# EAGLE library part RT5350 (library RT5350F_OLinuXino_Rev_B)
RT5350 SoC - combined Ralink's 802.11n compliant 1T1R MAC/BBP/RF, a high performance 360 MHz MIPS24KEc CPU core and USB controller/PHY
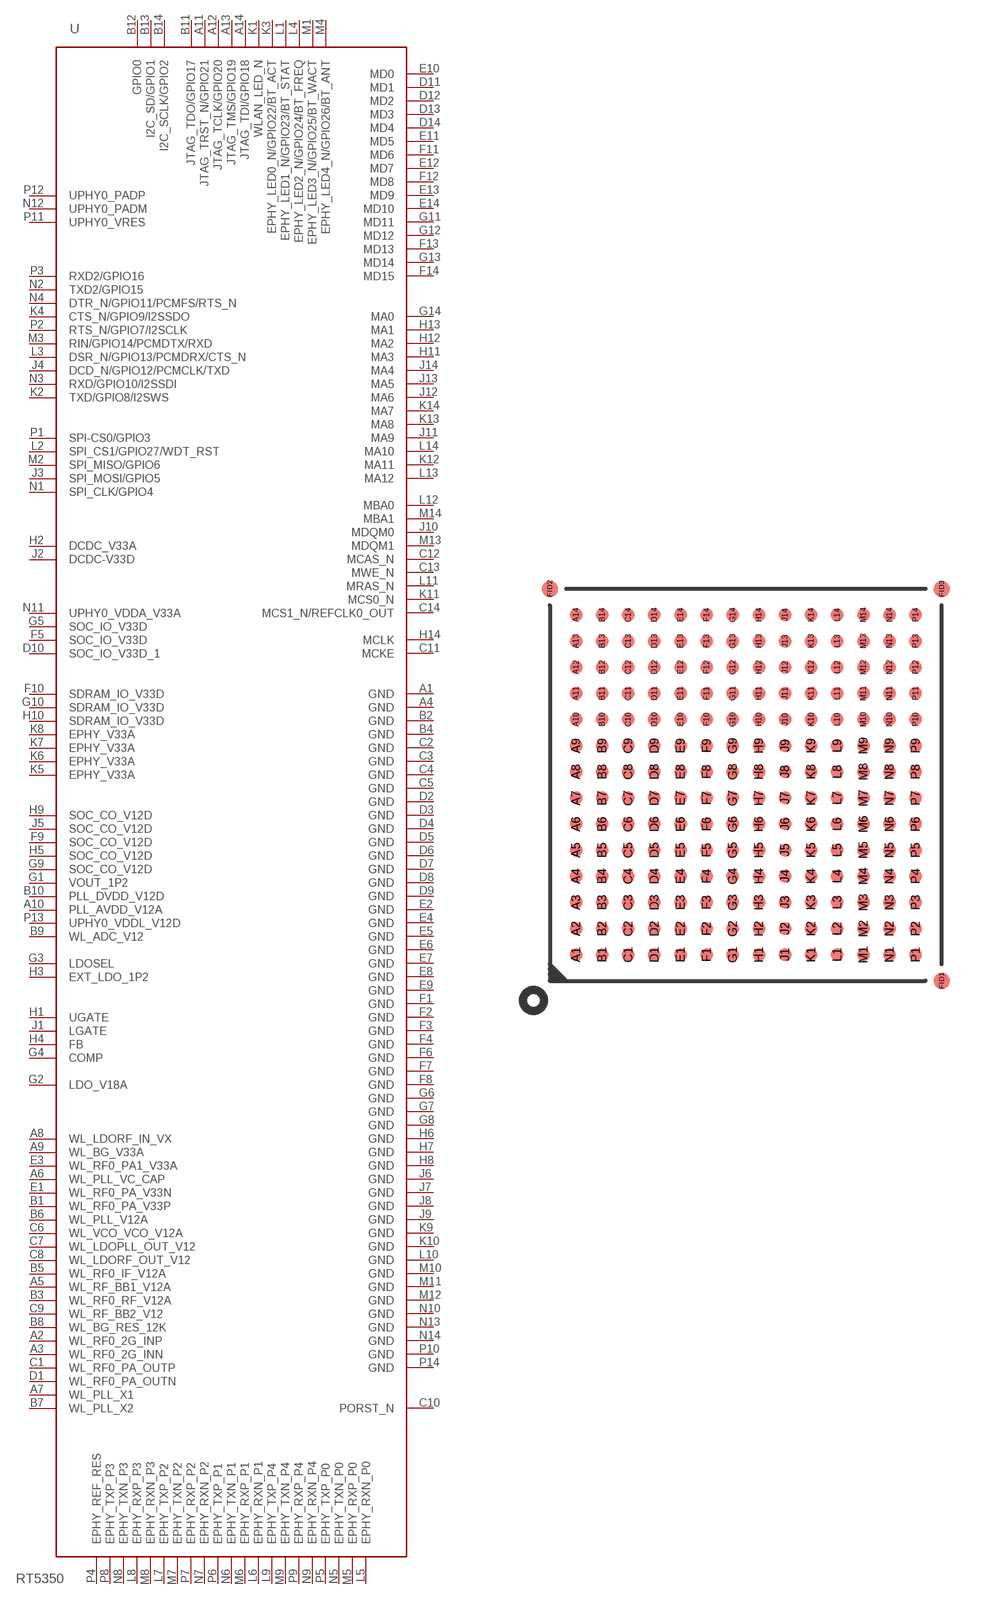
[diagram p0: symbol with the pads of TFBGA196B; footprint TFBGA196B]

Designator prefix U

## RT5350  [TFBGA196B]
A1  GND  pwr
A2  WL_RF0_2G_INP  in
A3  WL_RF0_2G_INN  in
A4  GND  pwr
A5  WL_RF_BB1_V12A  pwr
A6  WL_PLL_VC_CAP
A7  WL_PLL_X1  in
A8  WL_LDORF_IN_VX  in
A9  WL_BG_V33A  pwr
A10  PLL_AVDD_V12A  pwr
A11  JTAG_TRST_N/GPIO21  in
A12  JTAG_TCLK/GPIO20  in
A13  JTAG_TMS/GPIO19  in
A14  JTAG_TDI/GPIO18  in
B1  WL_RF0_PA_V33P  pwr
B2  GND  pwr
B3  WL_RF0_RF_V12A  pwr
B4  GND  pwr
B5  WL_RF0_IF_V12A  pwr
B6  WL_PLL_V12A  pwr
B7  WL_PLL_X2  out
B8  WL_BG_RES_12K
B9  WL_ADC_V12  pwr
B10  PLL_DVDD_V12D  pwr
B11  JTAG_TDO/GPIO17  out
B12  GPIO0
B13  I2C_SD/GPIO1  out
B14  I2C_SCLK/GPIO2
C1  WL_RF0_PA_OUTP  out
C2  GND  pwr
C3  GND  pwr
C4  GND  pwr
C5  GND  pwr
C6  WL_VCO_VCO_V12A  pwr
C7  WL_LDOPLL_OUT_V12  out
C8  WL_LDORF_OUT_V12  out
C9  WL_RF_BB2_V12  pwr
C10  PORST_N  in
C11  MCKE
C12  MCAS_N
C13  MWE_N
C14  MCS1_N/REFCLK0_OUT
D1  WL_RF0_PA_OUTN  out
D2  GND  pwr
D3  GND  pwr
D4  GND  pwr
D5  GND  pwr
D6  GND  pwr
D7  GND  pwr
D8  GND  pwr
D9  GND  pwr
D10  SOC_IO_V33D_1  pwr
D11  MD1
D12  MD2
D13  MD3
D14  MD4
E1  WL_RF0_PA_V33N  pwr
E2  GND  pwr
E3  WL_RF0_PA1_V33A  pwr
E4  GND  pwr
E5  GND  pwr
E6  GND  pwr
E7  GND  pwr
E8  GND  pwr
E9  GND  pwr
E10  MD0
E11  MD5
E12  MD7
E13  MD9
E14  MD10
F1  GND  pwr
F2  GND  pwr
F3  GND  pwr
F4  GND  pwr
F5  SOC_IO_V33D  pwr
F6  GND  pwr
F7  GND  pwr
F8  GND  pwr
F9  SOC_CO_V12D  pwr
F10  SDRAM_IO_V33D  pwr
F11  MD6
F12  MD8
F13  MD13
F14  MD15
G1  VOUT_1P2  pwr
G2  LDO_V18A  pwr
G3  LDOSEL  in
G4  COMP  out
G5  SOC_IO_V33D  pwr
G6  GND  pwr
G7  GND  pwr
G8  GND  pwr
G9  SOC_CO_V12D  pwr
G10  SDRAM_IO_V33D  pwr
G11  MD11
G12  MD12
G13  MD14
G14  MA0
H1  UGATE
H2  DCDC_V33A  pwr
H3  EXT_LDO_1P2  pwr
H4  FB
H5  SOC_CO_V12D  pwr
H6  GND  pwr
H7  GND  pwr
H8  GND  pwr
H9  SOC_CO_V12D  pwr
H10  SDRAM_IO_V33D  pwr
H11  MA3
H12  MA2
H13  MA1
H14  MCLK
J1  LGATE
J2  DCDC-V33D
J3  SPI_MOSI/GPIO5  out
J4  DCD_N/GPIO12/PCMCLK/TXD  in
J5  SOC_CO_V12D  pwr
J6  GND  pwr
J7  GND  pwr
J8  GND  pwr
J9  GND  pwr
J10  MDQM0
J11  MA9
J12  MA6
J13  MA5
J14  MA4
K1  WLAN_LED_N  out
K2  TXD/GPIO8/I2SWS  out
K3  EPHY_LED0_N/GPIO22/BT_ACT  out
K4  CTS_N/GPIO9/I2SSDO  in
K5  EPHY_V33A  pwr
K6  EPHY_V33A  pwr
K7  EPHY_V33A  pwr
K8  EPHY_V33A
K9  GND  pwr
K10  GND  pwr
K11  MCS0_N
K12  MA11
K13  MA8
K14  MA7
L1  EPHY_LED1_N/GPIO23/BT_STAT  out
L2  SPI_CS1/GPIO27/WDT_RST  out
L3  DSR_N/GPIO13/PCMDRX/CTS_N  in
L4  EPHY_LED2_N/GPIO24/BT_FREQ  out
L5  EPHY_RXN_P0  in
L6  EPHY_RXN_P1  in
L7  EPHY_TXP_P2  out
L8  EPHY_RXP_P3  in
L9  EPHY_TXP_P4  out
L10  GND  pwr
L11  MRAS_N
L12  MBA0
L13  MA12
L14  MA10
M1  EPHY_LED3_N/GPIO25/BT_WACT  out
M2  SPI_MISO/GPIO6  in
M3  RIN/GPIO14/PCMDTX/RXD  in
M4  EPHY_LED4_N/GPIO26/BT_ANT  out
M5  EPHY_RXP_P0  in
M6  EPHY_RXP_P1  in
M7  EPHY_TXN_P2  out
M8  EPHY_RXN_P3  in
M9  EPHY_TXN_P4  out
M10  GND  pwr
M11  GND  pwr
M12  GND  pwr
M13  MDQM1
M14  MBA1
N1  SPI_CLK/GPIO4  out
N2  TXD2/GPIO15  out
N3  RXD/GPIO10/I2SSDI  in
N4  DTR_N/GPIO11/PCMFS/RTS_N  out
N5  EPHY_TXN_P0  out
N6  EPHY_TXN_P1  out
N7  EPHY_RXN_P2  in
N8  EPHY_TXN_P3  out
N9  EPHY_RXN_P4  in
N10  GND  pwr
N11  UPHY0_VDDA_V33A  pwr
N12  UPHY0_PADM
N13  GND  pwr
N14  GND  pwr
P1  SPI-CS0/GPIO3  out
P2  RTS_N/GPIO7/I2SCLK  out
P3  RXD2/GPIO16  in
P4  EPHY_REF_RES
P5  EPHY_TXP_P0  out
P6  EPHY_TXP_P1  pwr
P7  EPHY_RXP_P2  in
P8  EPHY_TXP_P3  out
P9  EPHY_RXP_P4  in
P10  GND  pwr
P11  UPHY0_VRES
P12  UPHY0_PADP
P13  UPHY0_VDDL_V12D  pwr
P14  GND  pwr

## Footprint TFBGA196B (pad centres in mm)
(12,00x12,00x0,94mm) Pitch = 0.80mm; ball diameter 0.50mm according DSRT5350_V1.0_112510 .pdf
smd 0.4 x 0.4: A1 -5.2,-5.2; A2 -5.2,-4.4; A3 -5.2,-3.6; A4 -5.2,-2.8; A5 -5.2,-2; A6 -5.2,-1.2; A7 -5.2,-0.4; A8 -5.2,0.4; A9 -5.2,1.2; A10 -5.2,2; A11 -5.2,2.8; A12 -5.2,3.6; A13 -5.2,4.4; A14 -5.2,5.2; B1 -4.4,-5.2; B2 -4.4,-4.4; B3 -4.4,-3.6; B4 -4.4,-2.8; B5 -4.4,-2; B6 -4.4,-1.2; B7 -4.4,-0.4; B8 -4.4,0.4; B9 -4.4,1.2; B10 -4.4,2; B11 -4.4,2.8; B12 -4.4,3.6; B13 -4.4,4.4; B14 -4.4,5.2; C1 -3.6,-5.2; C2 -3.6,-4.4; C3 -3.6,-3.6; C4 -3.6,-2.8; C5 -3.6,-2; C6 -3.6,-1.2; C7 -3.6,-0.4; C8 -3.6,0.4; C9 -3.6,1.2; C10 -3.6,2; C11 -3.6,2.8; C12 -3.6,3.6; C13 -3.6,4.4; C14 -3.6,5.2; D1 -2.8,-5.2; D2 -2.8,-4.4; D3 -2.8,-3.6; D4 -2.8,-2.8; D5 -2.8,-2; D6 -2.8,-1.2; D7 -2.8,-0.4; D8 -2.8,0.4; D9 -2.8,1.2; D10 -2.8,2; D11 -2.8,2.8; D12 -2.8,3.6; D13 -2.8,4.4; D14 -2.8,5.2; E1 -2,-5.2; E2 -2,-4.4; E3 -2,-3.6; E4 -2,-2.8; E5 -2,-2; E6 -2,-1.2; E7 -2,-0.4; E8 -2,0.4; E9 -2,1.2; E10 -2,2; E11 -2,2.8; E12 -2,3.6; E13 -2,4.4; E14 -2,5.2; F1 -1.2,-5.2; F2 -1.2,-4.4; F3 -1.2,-3.6; F4 -1.2,-2.8; F5 -1.2,-2; F6 -1.2,-1.2; F7 -1.2,-0.4; F8 -1.2,0.4; F9 -1.2,1.2; F10 -1.2,2; F11 -1.2,2.8; F12 -1.2,3.6; F13 -1.2,4.4; F14 -1.2,5.2; G1 -0.4,-5.2; G2 -0.4,-4.4; G3 -0.4,-3.6; G4 -0.4,-2.8; G5 -0.4,-2; G6 -0.4,-1.2; G7 -0.4,-0.4; G8 -0.4,0.4; G9 -0.4,1.2; G10 -0.4,2; G11 -0.4,2.8; G12 -0.4,3.6; G13 -0.4,4.4; G14 -0.4,5.2; H1 0.4,-5.2; H2 0.4,-4.4; H3 0.4,-3.6; H4 0.4,-2.8; H5 0.4,-2; H6 0.4,-1.2; H7 0.4,-0.4; H8 0.4,0.4; H9 0.4,1.2; H10 0.4,2; H11 0.4,2.8; H12 0.4,3.6; H13 0.4,4.4; H14 0.4,5.2; J1 1.2,-5.2; J2 1.2,-4.4; J3 1.2,-3.6; J4 1.2,-2.8; J5 1.2,-2; J6 1.2,-1.2; J7 1.2,-0.4; J8 1.2,0.4; J9 1.2,1.2; J10 1.2,2; J11 1.2,2.8; J12 1.2,3.6; J13 1.2,4.4; J14 1.2,5.2; K1 2,-5.2; K2 2,-4.4; K3 2,-3.6; K4 2,-2.8; K5 2,-2; K6 2,-1.2; K7 2,-0.4; K8 2,0.4; K9 2,1.2; K10 2,2; K11 2,2.8; K12 2,3.6; K13 2,4.4; K14 2,5.2; L1 2.8,-5.2; L2 2.8,-4.4; L3 2.8,-3.6; L4 2.8,-2.8; L5 2.8,-2; L6 2.8,-1.2; L7 2.8,-0.4; L8 2.8,0.4; L9 2.8,1.2; L10 2.8,2; L11 2.8,2.8; L12 2.8,3.6; L13 2.8,4.4; L14 2.8,5.2; M1 3.6,-5.2; M2 3.6,-4.4; M3 3.6,-3.6; M4 3.6,-2.8; M5 3.6,-2; M6 3.6,-1.2; M7 3.6,-0.4; M8 3.6,0.4; M9 3.6,1.2; M10 3.6,2; M11 3.6,2.8; M12 3.6,3.6; M13 3.6,4.4; M14 3.6,5.2; N1 4.4,-5.2; N2 4.4,-4.4; N3 4.4,-3.6; N4 4.4,-2.8; N5 4.4,-2; N6 4.4,-1.2; N7 4.4,-0.4; N8 4.4,0.4; N9 4.4,1.2; N10 4.4,2; N11 4.4,2.8; N12 4.4,3.6; N13 4.4,4.4; N14 4.4,5.2; P1 5.2,-5.2; P2 5.2,-4.4; P3 5.2,-3.6; P4 5.2,-2.8; P5 5.2,-2; P6 5.2,-1.2; P7 5.2,-0.4; P8 5.2,0.4; P9 5.2,1.2; P10 5.2,2; P11 5.2,2.8; P12 5.2,3.6; P13 5.2,4.4; P14 5.2,5.2
smd 0.5 x 0.5: FID1 6,-6; FID2 -6,6; FID3 6,6